# EAGLE library part M_KEY (library Connetor_NGFF)
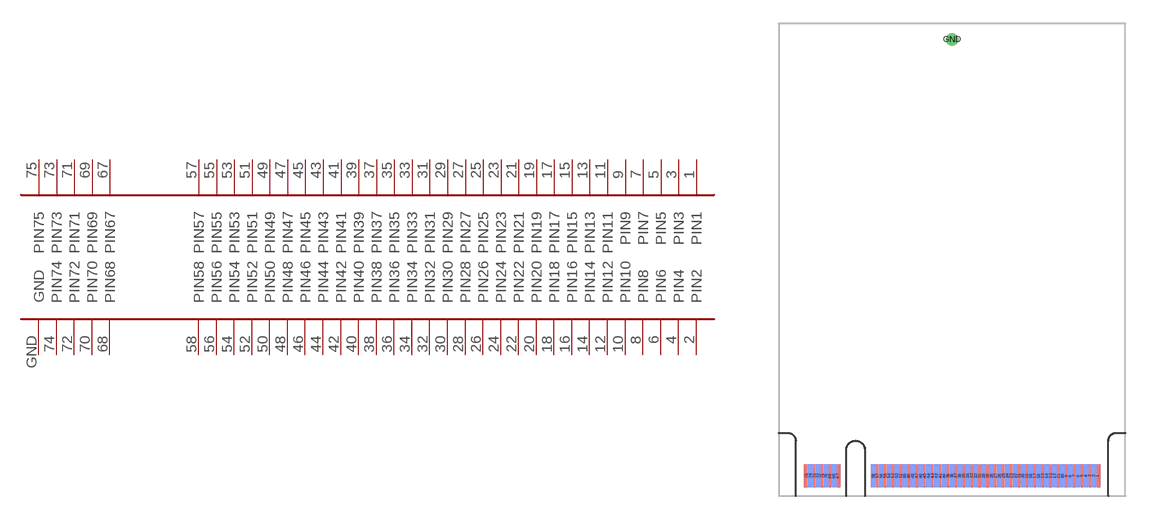
[diagram p0: symbol with the pads of 2230; footprint 2230]

Designator prefix -

## M_KEY  [2230]
1  PIN1
2  PIN2
3  PIN3
4  PIN4
5  PIN5
6  PIN6
7  PIN7
8  PIN8
9  PIN9
10  PIN10
11  PIN11
12  PIN12
13  PIN13
14  PIN14
15  PIN15
16  PIN16
17  PIN17
18  PIN18
19  PIN19
20  PIN20
21  PIN21
22  PIN22
23  PIN23
24  PIN24
25  PIN25
26  PIN26
27  PIN27
28  PIN28
29  PIN29
30  PIN30
31  PIN31
32  PIN32
33  PIN33
34  PIN34
35  PIN35
36  PIN36
37  PIN37
38  PIN38
39  PIN39
40  PIN40
41  PIN41
42  PIN42
43  PIN43
44  PIN44
45  PIN45
46  PIN46
47  PIN47
48  PIN48
49  PIN49
50  PIN50
51  PIN51
52  PIN52
53  PIN53
54  PIN54
55  PIN55
56  PIN56
57  PIN57
58  PIN58
67  PIN67
68  PIN68
69  PIN69
70  PIN70
71  PIN71
72  PIN72
73  PIN73
74  PIN74
75  PIN75
GND  GND

## Footprint 2230 (pad centres in mm)
smd 0.3 x 1.45: 1 20.25,1.275; 3 19.75,1.275; 5 19.25,1.275; 7 18.75,1.275; 9 18.25,1.275; 11 17.75,1.275; 13 17.25,1.275; 15 16.75,1.275; 17 16.25,1.275; 19 15.75,1.275; 21 15.25,1.275; 23 14.75,1.275; 25 14.25,1.275; 27 13.75,1.275; 29 13.25,1.275; 31 12.75,1.275; 33 12.25,1.275; 35 11.75,1.275; 37 11.25,1.275; 39 10.75,1.275; 41 10.25,1.275; 43 9.75,1.275; 45 9.25,1.275; 47 8.75,1.275; 49 8.25,1.275; 51 7.75,1.275; 53 7.25,1.275; 55 6.75,1.275; 57 6.25,1.275; 67 3.75,1.275; 69 3.25,1.275; 71 2.75,1.275; 73 2.25,1.275; 75 1.75,1.275
smd 0.3 x 1.45 bottom: 2 20,1.275; 4 19.5,1.275; 6 19,1.275; 8 18.5,1.275; 10 18,1.275; 12 17.5,1.275; 14 17,1.275; 16 16.5,1.275; 18 16,1.275; 20 15.5,1.275; 22 15,1.275; 24 14.5,1.275; 26 14,1.275; 28 13.5,1.275; 30 13,1.275; 32 12.5,1.275; 34 12,1.275; 36 11.5,1.275; 38 11,1.275; 40 10.5,1.275; 42 10,1.275; 44 9.5,1.275; 46 9,1.275; 48 8.5,1.275; 50 8,1.275; 52 7.5,1.275; 54 7,1.275; 56 6.5,1.275; 58 6,1.275; 68 3.5,1.275; 70 3,1.275; 72 2.5,1.275; 74 2,1.275
drill 0.3: GND 11,29